# EAGLE library part 634008149721 (library Wurth_Elektronik_Electromechanic_Input-Output_Connectors_rev16b)
WR-MJ_Modular Jack_Tab UP_8P8C 8P8C Tab UP With EMI panel ground <http://katalog.we-online.de/media/images/eican/Con_WR-MJ_Horizontal_Shielded_634008149721_pf2.jpg> Details see: http://katalog.we-online.de/en/em/634_008_149_721/634_008_149_721?m Created 2014-10-18, aslant tao 2014 (C) Würth Elektronik
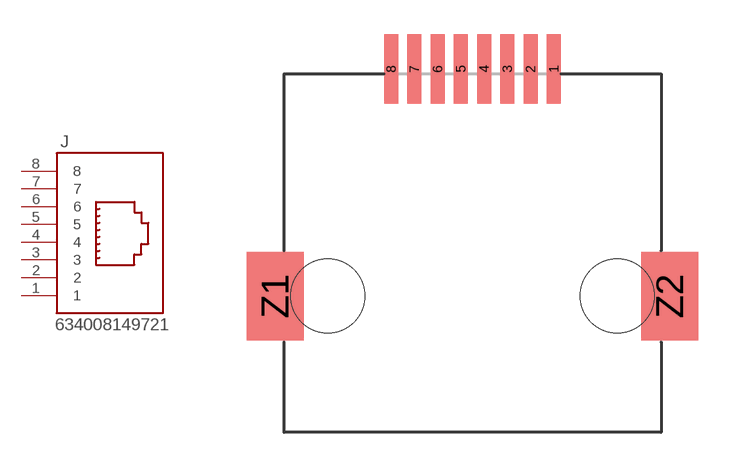
[diagram p175: symbol with the pads of 634008149721; footprint 634008149721]

Designator prefix J

## 634008149721  [634008149721]
1  1  pas
2  2  pas
3  3  pas
4  4  pas
5  5  pas
6  6  pas
7  7  pas
8  8  pas

## Footprint 634008149721 (pad centres in mm)
WR-MJ_Modular Jack_Tab UP_8P8C 8P8C Tab UP With EMI panel ground
smd 0.61 x 3.05: 1 3.57,0; 2 2.55,0; 3 1.53,0; 4 0.51,0; 5 -0.51,0; 6 -1.53,0; 7 -2.55,0; 8 -3.57,0
smd 2.5 x 3.89: Z1 -8.66,-9.98; Z2 8.66,-9.98
hole 3.25 at -6.35,-9.98
hole 3.25 at 6.35,-9.98